# Altium footprint library TE-5650478-5.PcbLib: 1 footprints
Each footprint in its own frame and in the unit in brackets; x right, y up, seen from the top. Pads: shape width x height; smd on the part's side, far side on the other; paste and mask are expansions set on the pad; w line width, h text height; cw(c..) or ccw(c..) is an arc to the next point about the centre after c.
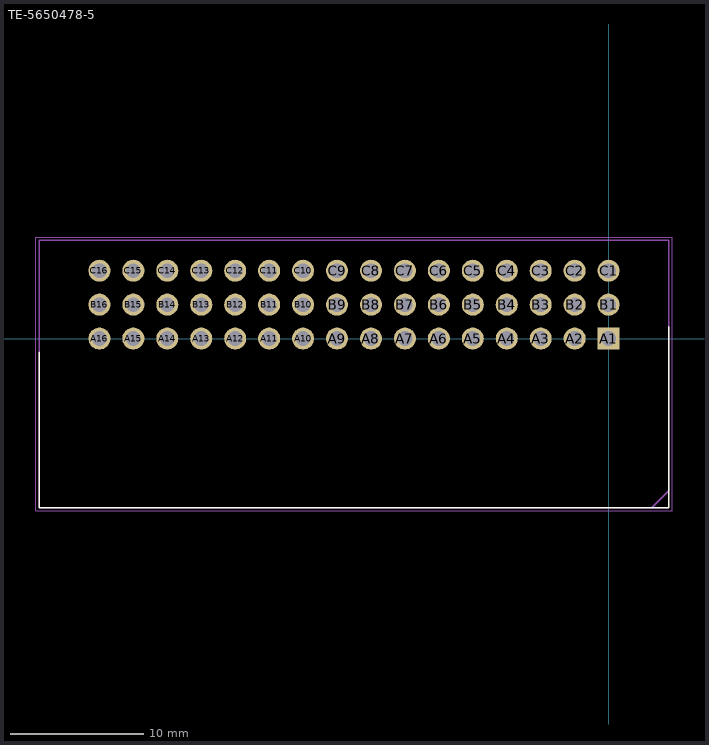
[diagram p0: the footprint, top view; thin cyan lines are the x and y axes]

## TE-5650478-5 [mm] "Header, Right Angle Shrouded, 2.54 mm pitch; 0.635 mm lead width, 48 pins, 3 rows, 16 pins per row, 47.12 mm L X 20.00 mm W X 11.10 mm H body"
height 11.1
pads (48):
  rect 1.65x1.65 hole 1.1 paste-1.65: A1(0,0)
  round 1.65 hole 1.1 paste-1.65: A2(-2.54,0) A3(-5.08,0) A4(-7.62,0) A5(-10.16,0) A6(-12.7,0) A7(-15.24,0) A8(-17.78,0) A9(-20.32,0) A10(-22.86,0) A11(-25.4,0) A12(-27.94,0) A13(-30.48,0) A14(-33.02,0) A15(-35.56,0) A16(-38.1,0) B1(0,2.54) B2(-2.54,2.54) B3(-5.08,2.54) B4(-7.62,2.54) B5(-10.16,2.54) B6(-12.7,2.54) B7(-15.24,2.54) B8(-17.78,2.54) B9(-20.32,2.54) B10(-22.86,2.54) B11(-25.4,2.54) B12(-27.94,2.54) B13(-30.48,2.54) B14(-33.02,2.54) B15(-35.56,2.54) B16(-38.1,2.54) C1(0,5.08) C2(-2.54,5.08) C3(-5.08,5.08) C4(-7.62,5.08) C5(-10.16,5.08) C6(-12.7,5.08) C7(-15.24,5.08) C8(-17.78,5.08) C9(-20.32,5.08) C10(-22.86,5.08) C11(-25.4,5.08) C12(-27.94,5.08) C13(-30.48,5.08) C14(-33.02,5.08) C15(-35.56,5.08) C16(-38.1,5.08)
Top Overlay:
  lines w0.12: -42.61,-1.01 -42.61,-12.65 4.51,-12.65 4.51,0.89
Fab - Detail1, HDI1:
  lines w0.12: -42.61,-12.65 -42.61,7.35 4.51,7.35 4.51,-11.38 3.24,-12.65 -42.61,-12.65
Fab - Detail2, HDI2:
  lines w0.01: -42.61,-12.65 4.51,-12.65 4.51,7.35 -42.61,7.35 -42.61,-12.65
Courtyards/Models - Top:
  circle w0.05: c0,0 r0.25
  lines w0.05: -0.35,0 0.35,0 ; 0,-0.35 0,0.35 ; -42.86,-12.9 4.76,-12.9 4.76,7.6 -42.86,7.6 -42.86,-12.9
3D body: height 10.52, standoff -1.58, extent -45.655,-12.7 7.555,5.322